# Altium schematic symbol library SCH - FUSE - MOUNTED FUSE.Schlib: 1 symbol
Pins are listed as number, name and electrical type; pins without a type are passive.

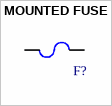
[diagram p0: symbol MOUNTED FUSE]

## MOUNTED FUSE
designator F?
GENERIC_fuse
pins: 1, 2